# Altium footprint library PCB - CONNECTOR - MOLEX - MOLEX 1720650008.PcbLib: 1 footprints
Each footprint in its own frame and in the unit in brackets; x right, y up, seen from the top. Pads: shape width x height; smd on the part's side, far side on the other; paste and mask are expansions set on the pad; w line width, h text height; cw(c..) or ccw(c..) is an arc to the next point about the centre after c.
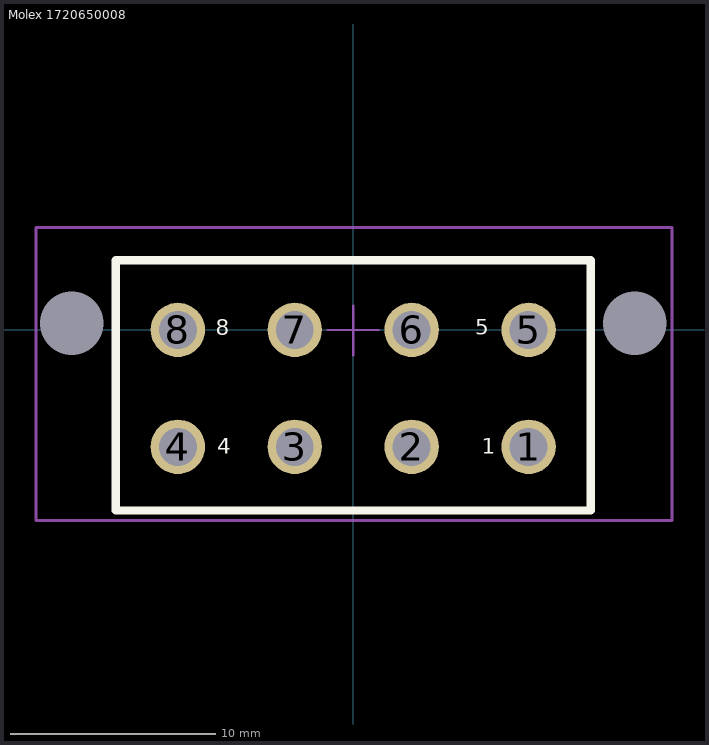
[diagram p0: the footprint, top view; thin cyan lines are the x and y axes]

## Molex 1720650008 [mm]
height 14.8
pads (10):
  round 2.65 hole 1.85 mask+0.1: 1(8.55,-5.7) 2(2.85,-5.7) 3(-2.85,-5.7) 4(-8.55,-5.7) 5(8.55,0) 6(2.85,0) 7(-2.85,0) 8(-8.55,0)
  round 0 hole 3.1 unplated mask+0.2: HOLE(-13.72,0.325) HOLE(13.72,0.325)
Top Overlay:
  lines w0.4: -11.575,-8.8 -11.575,3.4 11.575,3.4 11.575,-8.8 -11.575,-8.8
  text "1" at 6.273,-6.031 h0.76
  text "5" at 5.946,-0.231 h0.76
  text "4" at -6.629,-6.031 h0.76
  text "8" at -6.704,-0.256 h0.76
Mechanical 13:
  lines w0.1: -11.575,-8.9 -11.575,3.302 11.575,3.302 11.575,-8.9 -11.575,-8.9
Mechanical 15 (Mech15):
  lines w0.1: -1.25,0 0,0 ; 0,-1.25 0,0 ; 0,1.2 0,0 ; 1.25,0 0,0
  lines w0.15: -15.475,-9.3 -15.475,5 15.55,5 15.55,-9.3 -15.475,-9.3
3D body "Molex - 1720650008.stp": height 14.88, standoff -3.7, extent -15.246,-9 15.246,5.034